# Altium footprint library Fixed-Inductors.PcbLib: 5 footprints
Each footprint in its own frame and in the unit in brackets; x right, y up, seen from the top. Pads: shape width x height; smd on the part's side, far side on the other; paste and mask are expansions set on the pad; w line width, h text height; cw(c..) or ccw(c..) is an arc to the next point about the centre after c.
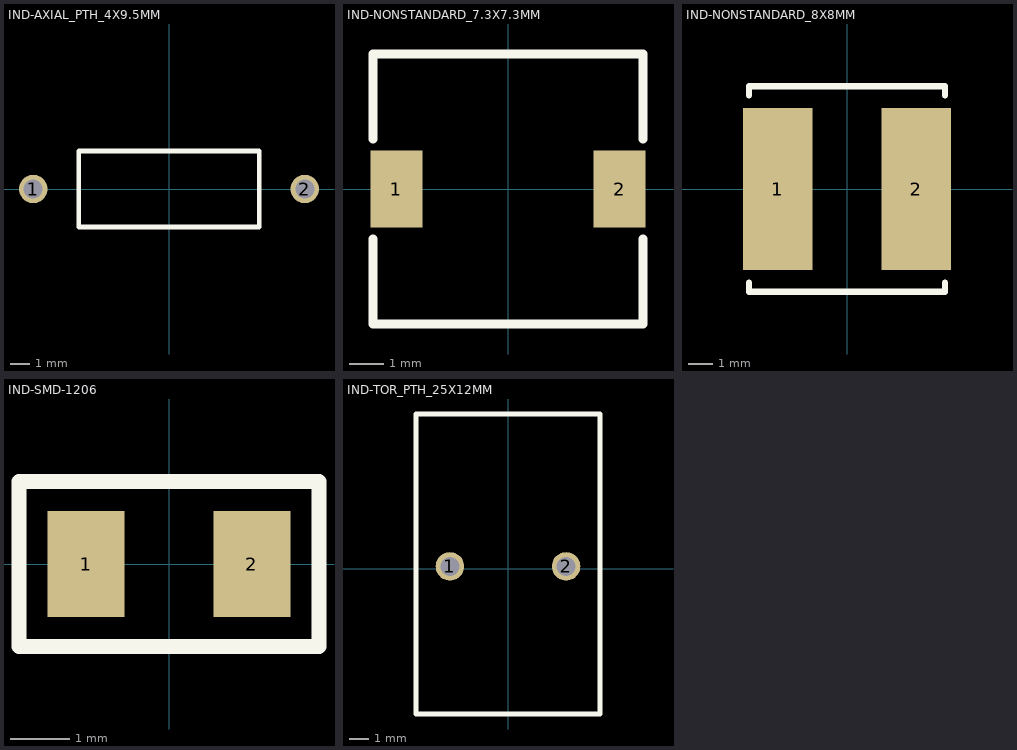
[diagram p0: the footprints below, top view; thin cyan lines are the x and y axes]

## IND-AXIAL_PTH_4X9.5MM [mm]
height 4
pads (2):
  round 1.5 hole 1: 1(-7.15,0) 2(7.15,0)
Top Overlay:
  lines w0.254: -4.75,-2 -4.75,2 4.75,2 4.75,-2 -4.75,-2
3D body "B78108E1104J009.step": height 3.99, standoff -20.85, extent -7.55,-2 7.55,2

## IND-NONSTANDARD_7.3X7.3MM [mil]
pads (2):
  rect 59x87 smd paste+0: 1(-126,0) 2(126,0)
Top Overlay:
  lines w10: -152.5,-56.6 -152.5,-152.5 152.5,-152.5 152.5,-56.6 ; -152.5,56.6 -152.5,152.5 152.5,152.5 152.5,56.6
3D body "B82472P6104M000.step": height 177.17, standoff 0, extent -143.7,-143.7 143.7,143.7

## IND-NONSTANDARD_8X8MM [mm]
pads (2):
  rect 2.85x6.6 smd: 1(-2.825,0) 2(2.825,0)
Top Overlay:
  lines w0.254: -4,-3.815 -4,-4.2 4,-4.2 4,-3.815 ; -4,3.815 -4,4.2 4,4.2 4,3.815
3D body "step_temp.STEP": height 4, standoff 0, extent -4,-4 4,4

## IND-SMD-1206 [mm]
pads (2):
  rect 1.306x1.8 smd paste+0: 1(-1.403,0) 2(1.403,0)
Top Overlay:
  lines w0.254: -2.54,-1.397 -2.54,1.397 2.54,1.397 2.54,-1.397 -2.54,-1.397
3D body "IND_MOD.STEP": height 1.1, standoff 0, extent -1.6,-0.8 1.6,0.8

## IND-TOR_PTH_25X12MM [mm]
pads (2):
  round 1.5 hole 1: 1(-3.048,0.127) 2(3.048,0.127)
Top Overlay:
  lines w0.254: -4.826,-7.62 4.826,-7.62 4.826,8.128 -4.826,8.128 -4.826,-7.62
3D body "MY_MOD.STEP": height 15.88, standoff -2.01, extent -3.37,-7.29 3.37,7.543